# Altium footprint library gniazda.PcbLib: 2 footprints
Each footprint in its own frame and in the unit in brackets; x right, y up, seen from the top. Pads: shape width x height; smd on the part's side, far side on the other; paste and mask are expansions set on the pad; w line width, h text height; cw(c..) or ccw(c..) is an arc to the next point about the centre after c.
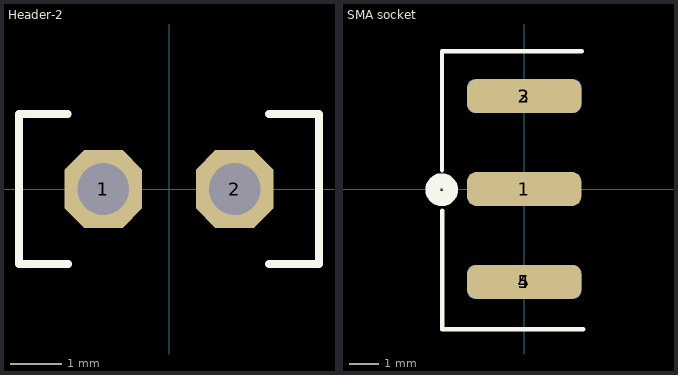
[diagram p0: the footprints below, top view; thin cyan lines are the x and y axes]

## Header-2 [mm]
pads (2):
  oct 1.5x1.5 hole 1: 1(-1.27,0) 2(1.27,0)
Top Overlay:
  lines w0.152: -2.9,-1.45 -2.9,1.45 -1.958,1.45 ; -2.889,-1.447 -1.947,-1.447 ; 1.937,-1.447 2.879,-1.447 ; 1.937,1.448 2.879,1.448 ; 2.9,-1.45 2.9,1.45

## SMA socket [mm]
pads (5):
  rrect50% 3.9x1.15 smd: 1(0,0) 2(0,3.175) 4(0,-3.175)
  rrect50% 3.9x1.15 smd far side: 3(0,3.175) 5(0,-3.175)
Top Overlay:
  circle w0.508: c-2.819,-0.025 r0.306
  lines w0.152: -2.809,0.636 -2.809,4.7 1.966,4.7 ; -2.794,-4.801 -2.794,-0.737 ; -2.758,-4.8 2.017,-4.8